# Altium schematic symbol library MC3306A.SchLib: 1 symbol
Pins are listed as number, name and electrical type; pins without a type are passive.

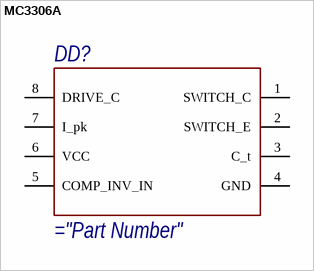
[diagram p0: symbol MC3306A]

## MC3306A
designator DD?
DC-DC понижающий/повышающий преобразователь, вход: 3 - 40 В, выход: 1,25 - 40 В 1,5 А
pins: 1 SWITCH_C, 2 SWITCH_E, 3 C_t, 4 GND, 5 COMP_INV_IN, 6 VCC, 7 I_pk, 8 DRIVE_C